# Altium schematic symbol library LED-LED_2P.SchLib: 2 symbols
Pins are listed as number, name and electrical type; pins without a type are passive.

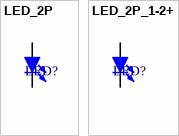
[diagram p0: symbols LED_2P to LED_2P_1-2+]

## LED_2P
designator LED?
pins: 1 A, 2 K

## LED_2P_1-2+
designator LED?
pins: 1 A, 2 K